# Altium schematic symbol library MS580330BA01-00.SchLib: 1 symbol
Pins are listed as number, name and electrical type; pins without a type are passive.

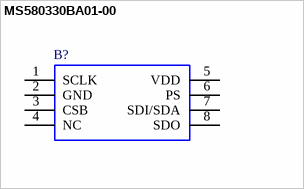
[diagram p0: symbol MS580330BA01-00]

## MS580330BA01-00
designator B?
Pressure Sensor 435.1PSI (3000kPa) Absolute 24 b 8-SMD Module; Manufacturer_Name: TE Connectivity; Geometry.Height: 3.23mm; Manufacturer_Part_Number: MS580330BA01-00; Mouser Part Number: 824-MS580330BA01-00; Mouser Price/Stock: https://www.mouser.co.uk/ProductDetail/Measurement-Specialties/MS580330BA01-00?qs=oFx6pF86PmCR00wWSBOdQA%3D%3D; Arrow Part Number: MS580330BA01-00; Arrow Price/Stock: https://www.arrow.com/en/products/ms580330ba01-00/te-connectivity?region=europe; Mouser Testing Part Number: *; Mouser Testing Price/Stock: *; Datasheet Link: https://www.te.com/commerce/DocumentDelivery/DDEController?Action=srchrtrv&DocNm=MS5803-30BA&DocType=Data+Sheet&DocLang=English
footprint MS580330BA0100
pins: 1 SCLK, 2 GND, 3 CSB, 4 NC, 5 VDD, 6 PS, 7 SDI/SDA, 8 SDO